# Altium schematic symbol library NORA.SchLib: 13 symbols
Pins are listed as number, name and electrical type; pins without a type are passive.

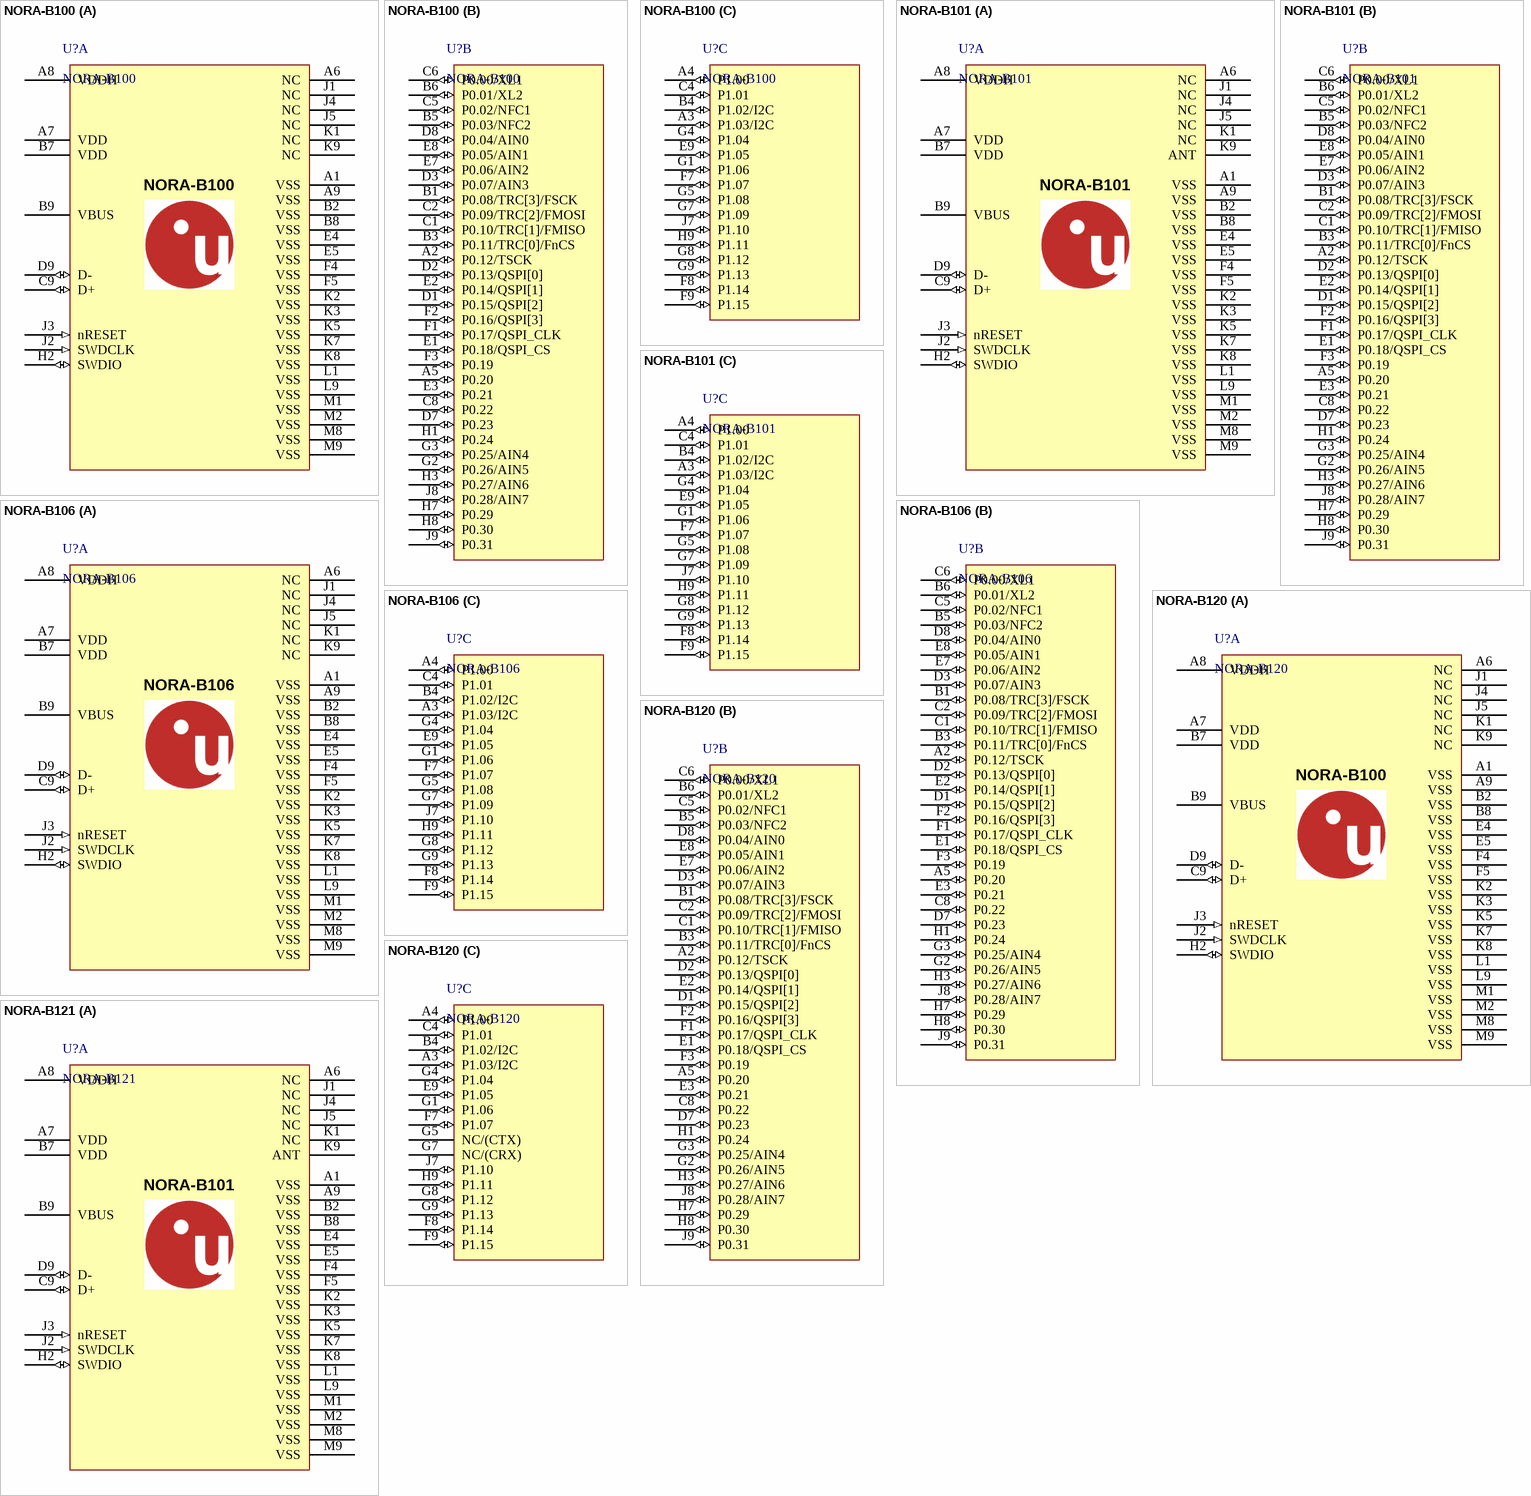
[diagram p0: symbols NORA-B100 to NORA-B121]

## NORA-B100
designator U?
u-blox NORA-B100 Bluetooth 5.2 LE module - dual core; Manufacturer P/N: NORA-B100-00B; Part Description: Stand-alone Bluetooth low energy module - dual core; Body Size: 14.3 mm x 10.4 mm; Part Number: NORA-B100; Part Name: NORA-B100; Part_Type: Module; Manufacturer: u-blox; Height: 1.8 mm; Value: NORA-B100
footprint NORA_LGA82R_1430X1040X180_UFL (NORA LGA, 82pin ,1.1mm Pitch, 14.3mm x 10.4mm)
footprint NORA_LGA82R_1430X1040X180_UFL - No Paste (NORA LGA, 82pin ,1.1mm Pitch, 14.3mm x 10.4mm)
part A pins: A1 VSS (power), A6 NC (hiz), A7 VDD (power), A8 VDDH (power), A9 VSS (power), B2 VSS (power), B7 VDD (power), B8 VSS (power), B9 VBUS (power), C9 D+ (io), D9 D- (io), E4 VSS (power), E5 VSS (power), F4 VSS (power), F5 VSS (power), H2 SWDIO (io), J1 NC (hiz), J2 SWDCLK (in), J3 nRESET (in), J4 NC (hiz), J5 NC (hiz), K1 NC (hiz), K2 VSS (power), K3 VSS (power), K5 VSS (power), K7 VSS (power), K8 VSS (power), K9 NC (hiz), L1 VSS (power), L9 VSS (power), M1 VSS (power), M2 VSS (power), M8 VSS (power), M9 VSS (power)
part B pins: A2 P0.12/TSCK (io), A5 P0.20 (io), B1 P0.08/TRC[3]/FSCK (io), B3 P0.11/TRC[0]/FnCS (io), B5 P0.03/NFC2 (io), B6 P0.01/XL2 (io), C1 P0.10/TRC[1]/FMISO (io), C2 P0.09/TRC[2]/FMOSI (io), C5 P0.02/NFC1 (io), C6 P0.00/XL1 (io), C8 P0.22 (io), D1 P0.15/QSPI[2] (io), D2 P0.13/QSPI[0] (io), D3 P0.07/AIN3 (io), D7 P0.23 (io), D8 P0.04/AIN0 (io), E1 P0.18/QSPI_CS (io), E2 P0.14/QSPI[1] (io), E3 P0.21 (io), E7 P0.06/AIN2 (io), E8 P0.05/AIN1 (io), F1 P0.17/QSPI_CLK (io), F2 P0.16/QSPI[3] (io), F3 P0.19 (io), G2 P0.26/AIN5 (io), G3 P0.25/AIN4 (io), H1 P0.24 (io), H3 P0.27/AIN6 (io), H7 P0.29 (io), H8 P0.30 (io), J8 P0.28/AIN7 (io), J9 P0.31 (io)
part C pins: A3 P1.03/I2C (io) "I2C Clock SCL", A4 P1.00 (io), B4 P1.02/I2C (io) "I2C Data SDA", C4 P1.01 (io), E9 P1.05 (io), F7 P1.07 (io), F8 P1.14 (io), F9 P1.15 (io), G1 P1.06 (io), G4 P1.04 (io), G5 P1.08 (io), G7 P1.09 (io), G8 P1.12 (io), G9 P1.13 (io), H9 P1.11 (io), J7 P1.10 (io)

## NORA-B101
designator U?
u-blox NORA-B101 Bluetooth 5.2 LE module - dual core; Manufacturer P/N: NORA-B101-00B; Part Description: Stand-alone Bluetooth low energy module - dual-core; Body Size: 14.3 mm x 10.4 mm; Part Number: NORA-B101; Part Name: NORA-B101; Part_Type: Module; Manufacturer: u-blox; Height: 1.8 mm; Value: NORA-B101
footprint NORA_LGA82R_1430X1040X180_PIN (NORA LGA, 82pin ,1.1mm Pitch, 14.3mm x 10.4mm)
footprint NORA_LGA82R_1430X1040X180_PIN - No Paste (NORA LGA, 82pin ,1.1mm Pitch, 14.3mm x 10.4mm)
part A pins: A1 VSS (power), A6 NC (hiz), A7 VDD (power), A8 VDDH (power), A9 VSS (power), B2 VSS (power), B7 VDD (power), B8 VSS (power), B9 VBUS (power), C9 D+ (io), D9 D- (io), E4 VSS (power), E5 VSS (power), F4 VSS (power), F5 VSS (power), H2 SWDIO (io), J1 NC (hiz), J2 SWDCLK (in), J3 nRESET (in), J4 NC (hiz), J5 NC (hiz), K1 NC (hiz), K2 VSS (power), K3 VSS (power), K5 VSS (power), K7 VSS (power), K8 VSS (power), K9 ANT (hiz), L1 VSS (power), L9 VSS (power), M1 VSS (power), M2 VSS (power), M8 VSS (power), M9 VSS (power)
part B pins: A2 P0.12/TSCK (io), A5 P0.20 (io), B1 P0.08/TRC[3]/FSCK (io), B3 P0.11/TRC[0]/FnCS (io), B5 P0.03/NFC2 (io), B6 P0.01/XL2 (io), C1 P0.10/TRC[1]/FMISO (io), C2 P0.09/TRC[2]/FMOSI (io), C5 P0.02/NFC1 (io), C6 P0.00/XL1 (io), C8 P0.22 (io), D1 P0.15/QSPI[2] (io), D2 P0.13/QSPI[0] (io), D3 P0.07/AIN3 (io), D7 P0.23 (io), D8 P0.04/AIN0 (io), E1 P0.18/QSPI_CS (io), E2 P0.14/QSPI[1] (io), E3 P0.21 (io), E7 P0.06/AIN2 (io), E8 P0.05/AIN1 (io), F1 P0.17/QSPI_CLK (io), F2 P0.16/QSPI[3] (io), F3 P0.19 (io), G2 P0.26/AIN5 (io), G3 P0.25/AIN4 (io), H1 P0.24 (io), H3 P0.27/AIN6 (io), H7 P0.29 (io), H8 P0.30 (io), J8 P0.28/AIN7 (io), J9 P0.31 (io)
part C pins: A3 P1.03/I2C (io) "I2C Clock SCL", A4 P1.00 (io), B4 P1.02/I2C (io) "I2C Data SDA", C4 P1.01 (io), E9 P1.05 (io), F7 P1.07 (io), F8 P1.14 (io), F9 P1.15 (io), G1 P1.06 (io), G4 P1.04 (io), G5 P1.08 (io), G7 P1.09 (io), G8 P1.12 (io), G9 P1.13 (io), H9 P1.11 (io), J7 P1.10 (io)

## NORA-B106
designator U?
u-blox NORA-B106 Bluetooth 5.2 LE module - dual core; Manufacturer P/N: NORA-B106-00B; Part Description: Stand-alone Bluetooth low energy module - dual core; Body Size: 14.3 mm x 10.4 mm; Part Number: NORA-B106; Part Name: NORA-B106; Part_Type: Module; Manufacturer: u-blox; Height: 1.8 mm; Value: NORA-B106
footprint NORA_LGA82R_1430X1040X180_ANT (NORA LGA, 82pin ,1.1mm Pitch, 14.3mm x 10.4mm)
footprint NORA_LGA82R_1430X1040X180_ANT - No Paste (NORA LGA, 82pin ,1.1mm Pitch, 14.3mm x 10.4mm)
part A pins: A1 VSS (power), A6 NC (hiz), A7 VDD (power), A8 VDDH (power), A9 VSS (power), B2 VSS (power), B7 VDD (power), B8 VSS (power), B9 VBUS (power), C9 D+ (io), D9 D- (io), E4 VSS (power), E5 VSS (power), F4 VSS (power), F5 VSS (power), H2 SWDIO (io), J1 NC (hiz), J2 SWDCLK (in), J3 nRESET (in), J4 NC (hiz), J5 NC (hiz), K1 NC (hiz), K2 VSS (power), K3 VSS (power), K5 VSS (power), K7 VSS (power), K8 VSS (power), K9 NC (hiz), L1 VSS (power), L9 VSS (power), M1 VSS (power), M2 VSS (power), M8 VSS (power), M9 VSS (power)
part B pins: A2 P0.12/TSCK (io), A5 P0.20 (io), B1 P0.08/TRC[3]/FSCK (io), B3 P0.11/TRC[0]/FnCS (io), B5 P0.03/NFC2 (io), B6 P0.01/XL2 (io), C1 P0.10/TRC[1]/FMISO (io), C2 P0.09/TRC[2]/FMOSI (io), C5 P0.02/NFC1 (io), C6 P0.00/XL1 (io), C8 P0.22 (io), D1 P0.15/QSPI[2] (io), D2 P0.13/QSPI[0] (io), D3 P0.07/AIN3 (io), D7 P0.23 (io), D8 P0.04/AIN0 (io), E1 P0.18/QSPI_CS (io), E2 P0.14/QSPI[1] (io), E3 P0.21 (io), E7 P0.06/AIN2 (io), E8 P0.05/AIN1 (io), F1 P0.17/QSPI_CLK (io), F2 P0.16/QSPI[3] (io), F3 P0.19 (io), G2 P0.26/AIN5 (io), G3 P0.25/AIN4 (io), H1 P0.24 (io), H3 P0.27/AIN6 (io), H7 P0.29 (io), H8 P0.30 (io), J8 P0.28/AIN7 (io), J9 P0.31 (io)
part C pins: A3 P1.03/I2C (io) "I2C Clock SCL", A4 P1.00 (io), B4 P1.02/I2C (io) "I2C Data SDA", C4 P1.01 (io), E9 P1.05 (io), F7 P1.07 (io), F8 P1.14 (io), F9 P1.15 (io), G1 P1.06 (io), G4 P1.04 (io), G5 P1.08 (io), G7 P1.09 (io), G8 P1.12 (io), G9 P1.13 (io), H9 P1.11 (io), J7 P1.10 (io)

## NORA-B120
designator U?
u-blox NORA-B120 Bluetooth 5.2 LE module - dual core; Part Description: Stand-alone Bluetooth low energy module - dual core; Body Size: 14.3 mm x 10.4 mm; Manufacturer P/N: NORA-B120; Part Number: NORA-B120; Part Name: NORA-B120; Part_Type: Module; Manufacturer: u-blox; Height: 1.8 mm; Value: NORA-B120
footprint NORA_LGA82R_1430X1040X180_UFL (NORA LGA, 82pin ,1.1mm Pitch, 14.3mm x 10.4mm)
footprint NORA_LGA82R_1430X1040X180_UFL - No Paste (NORA LGA, 82pin ,1.1mm Pitch, 14.3mm x 10.4mm)
part A pins: A1 VSS (power), A6 NC (hiz), A7 VDD (power), A8 VDDH (power), A9 VSS (power), B2 VSS (power), B7 VDD (power), B8 VSS (power), B9 VBUS (power), C9 D+ (io), D9 D- (io), E4 VSS (power), E5 VSS (power), F4 VSS (power), F5 VSS (power), H2 SWDIO (io), J1 NC (hiz), J2 SWDCLK (in), J3 nRESET (in), J4 NC (hiz), J5 NC (hiz), K1 NC (hiz), K2 VSS (power), K3 VSS (power), K5 VSS (power), K7 VSS (power), K8 VSS (power), K9 NC (hiz), L1 VSS (power), L9 VSS (power), M1 VSS (power), M2 VSS (power), M8 VSS (power), M9 VSS (power)
part B pins: A2 P0.12/TSCK (io), A5 P0.20 (io), B1 P0.08/TRC[3]/FSCK (io), B3 P0.11/TRC[0]/FnCS (io), B5 P0.03/NFC2 (io), B6 P0.01/XL2 (io), C1 P0.10/TRC[1]/FMISO (io), C2 P0.09/TRC[2]/FMOSI (io), C5 P0.02/NFC1 (io), C6 P0.00/XL1 (io), C8 P0.22 (io), D1 P0.15/QSPI[2] (io), D2 P0.13/QSPI[0] (io), D3 P0.07/AIN3 (io), D7 P0.23 (io), D8 P0.04/AIN0 (io), E1 P0.18/QSPI_CS (io), E2 P0.14/QSPI[1] (io), E3 P0.21 (io), E7 P0.06/AIN2 (io), E8 P0.05/AIN1 (io), F1 P0.17/QSPI_CLK (io), F2 P0.16/QSPI[3] (io), F3 P0.19 (io), G2 P0.26/AIN5 (io), G3 P0.25/AIN4 (io), H1 P0.24 (io), H3 P0.27/AIN6 (io), H7 P0.29 (io), H8 P0.30 (io), J8 P0.28/AIN7 (io), J9 P0.31 (io)
part C pins: A3 P1.03/I2C (io) "I2C Clock SCL", A4 P1.00 (io), B4 P1.02/I2C (io) "I2C Data SDA", C4 P1.01 (io), E9 P1.05 (io), F7 P1.07 (io), F8 P1.14 (io), F9 P1.15 (io), G1 P1.06 (io), G4 P1.04 (io), G5 NC/(CTX) (hiz) "Front End Module Tx Mode Enable", G7 NC/(CRX) (hiz) "Front End Module Rx Enable", G8 P1.12 (io), G9 P1.13 (io), H9 P1.11 (io), J7 P1.10 (io)
part A text: NORA-B100

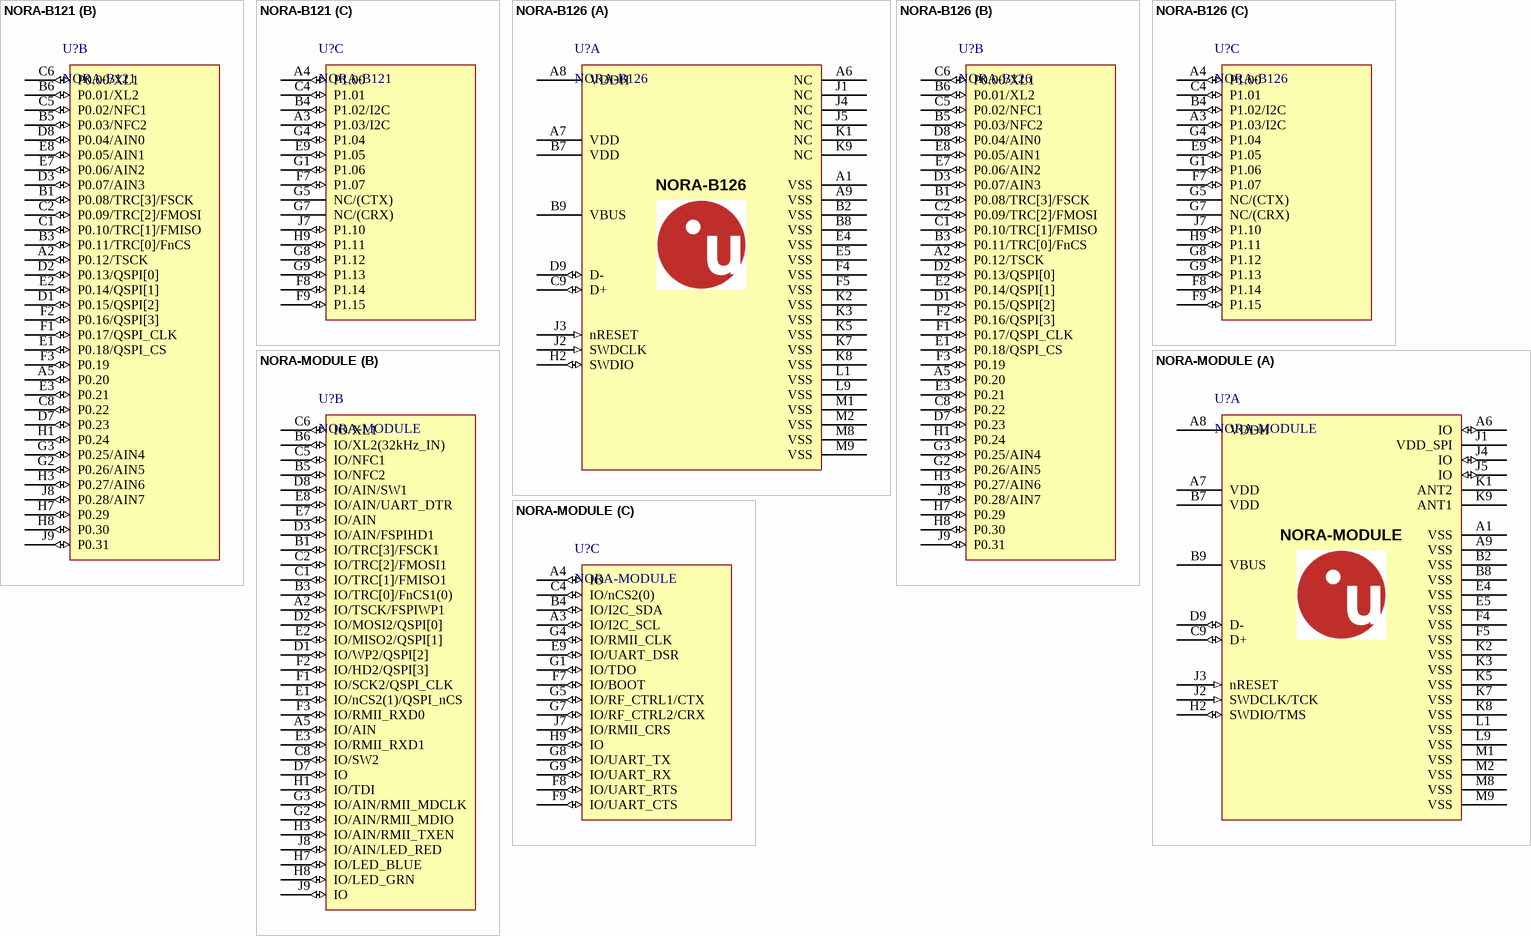
[diagram p1: symbols NORA-B121 to NORA-MODULE]

## NORA-B121
designator U?
u-blox NORA-B121 Bluetooth 5.2 LE module - dual core; Part Description: Stand-alone Bluetooth low energy module - dual-core; Body Size: 14.3 mm x 10.4 mm; Manufacturer P/N: NORA-B121; Part Number: NORA-B121; Part Name: NORA-B121; Part_Type: Module; Manufacturer: u-blox; Height: 1.8 mm; Value: NORA-B121
footprint NORA_LGA82R_1430X1040X180_PIN (NORA LGA, 82pin ,1.1mm Pitch, 14.3mm x 10.4mm)
footprint NORA_LGA82R_1430X1040X180_PIN - No Paste (NORA LGA, 82pin ,1.1mm Pitch, 14.3mm x 10.4mm)
part A pins: A1 VSS (power), A6 NC (hiz), A7 VDD (power), A8 VDDH (power), A9 VSS (power), B2 VSS (power), B7 VDD (power), B8 VSS (power), B9 VBUS (power), C9 D+ (io), D9 D- (io), E4 VSS (power), E5 VSS (power), F4 VSS (power), F5 VSS (power), H2 SWDIO (io), J1 NC (hiz), J2 SWDCLK (in), J3 nRESET (in), J4 NC (hiz), J5 NC (hiz), K1 NC (hiz), K2 VSS (power), K3 VSS (power), K5 VSS (power), K7 VSS (power), K8 VSS (power), K9 ANT (hiz), L1 VSS (power), L9 VSS (power), M1 VSS (power), M2 VSS (power), M8 VSS (power), M9 VSS (power)
part B pins: A2 P0.12/TSCK (io), A5 P0.20 (io), B1 P0.08/TRC[3]/FSCK (io), B3 P0.11/TRC[0]/FnCS (io), B5 P0.03/NFC2 (io), B6 P0.01/XL2 (io), C1 P0.10/TRC[1]/FMISO (io), C2 P0.09/TRC[2]/FMOSI (io), C5 P0.02/NFC1 (io), C6 P0.00/XL1 (io), C8 P0.22 (io), D1 P0.15/QSPI[2] (io), D2 P0.13/QSPI[0] (io), D3 P0.07/AIN3 (io), D7 P0.23 (io), D8 P0.04/AIN0 (io), E1 P0.18/QSPI_CS (io), E2 P0.14/QSPI[1] (io), E3 P0.21 (io), E7 P0.06/AIN2 (io), E8 P0.05/AIN1 (io), F1 P0.17/QSPI_CLK (io), F2 P0.16/QSPI[3] (io), F3 P0.19 (io), G2 P0.26/AIN5 (io), G3 P0.25/AIN4 (io), H1 P0.24 (io), H3 P0.27/AIN6 (io), H7 P0.29 (io), H8 P0.30 (io), J8 P0.28/AIN7 (io), J9 P0.31 (io)
part C pins: A3 P1.03/I2C (io) "I2C Clock SCL", A4 P1.00 (io), B4 P1.02/I2C (io) "I2C Data SDA", C4 P1.01 (io), E9 P1.05 (io), F7 P1.07 (io), F8 P1.14 (io), F9 P1.15 (io), G1 P1.06 (io), G4 P1.04 (io), G5 NC/(CTX) (hiz) "Front End Module Tx Mode Enable", G7 NC/(CRX) (hiz) "Front End Module Rx Enable", G8 P1.12 (io), G9 P1.13 (io), H9 P1.11 (io), J7 P1.10 (io)
part A text: NORA-B101

## NORA-B126
designator U?
u-blox NORA-B126 Bluetooth 5.2 LE module with FEM; Manufacturer P/N: NORA-B106-00B; Part Description: Stand-alone Bluetooth low energy module - dual core; Body Size: 14.3 mm x 10.4 mm; Part Number: NORA-B126; Part Name: NORA-B126; Part_Type: Module; Manufacturer: u-blox; Height: 1.8 mm; Value: NORA-B126
footprint NORA_LGA82R_1430X1040X180_ANT (NORA LGA, 82pin ,1.1mm Pitch, 14.3mm x 10.4mm)
footprint NORA_LGA82R_1430X1040X180_ANT - No Paste (NORA LGA, 82pin ,1.1mm Pitch, 14.3mm x 10.4mm)
part A pins: A1 VSS (power), A6 NC (hiz), A7 VDD (power), A8 VDDH (power), A9 VSS (power), B2 VSS (power), B7 VDD (power), B8 VSS (power), B9 VBUS (power), C9 D+ (io), D9 D- (io), E4 VSS (power), E5 VSS (power), F4 VSS (power), F5 VSS (power), H2 SWDIO (io), J1 NC (hiz), J2 SWDCLK (in), J3 nRESET (in), J4 NC (hiz), J5 NC (hiz), K1 NC (hiz), K2 VSS (power), K3 VSS (power), K5 VSS (power), K7 VSS (power), K8 VSS (power), K9 NC (hiz), L1 VSS (power), L9 VSS (power), M1 VSS (power), M2 VSS (power), M8 VSS (power), M9 VSS (power)
part B pins: A2 P0.12/TSCK (io), A5 P0.20 (io), B1 P0.08/TRC[3]/FSCK (io), B3 P0.11/TRC[0]/FnCS (io), B5 P0.03/NFC2 (io), B6 P0.01/XL2 (io), C1 P0.10/TRC[1]/FMISO (io), C2 P0.09/TRC[2]/FMOSI (io), C5 P0.02/NFC1 (io), C6 P0.00/XL1 (io), C8 P0.22 (io), D1 P0.15/QSPI[2] (io), D2 P0.13/QSPI[0] (io), D3 P0.07/AIN3 (io), D7 P0.23 (io), D8 P0.04/AIN0 (io), E1 P0.18/QSPI_CS (io), E2 P0.14/QSPI[1] (io), E3 P0.21 (io), E7 P0.06/AIN2 (io), E8 P0.05/AIN1 (io), F1 P0.17/QSPI_CLK (io), F2 P0.16/QSPI[3] (io), F3 P0.19 (io), G2 P0.26/AIN5 (io), G3 P0.25/AIN4 (io), H1 P0.24 (io), H3 P0.27/AIN6 (io), H7 P0.29 (io), H8 P0.30 (io), J8 P0.28/AIN7 (io), J9 P0.31 (io)
part C pins: A3 P1.03/I2C (io) "I2C Clock SCL", A4 P1.00 (io), B4 P1.02/I2C (io) "I2C Data SDA", C4 P1.01 (io), E9 P1.05 (io), F7 P1.07 (io), F8 P1.14 (io), F9 P1.15 (io), G1 P1.06 (io), G4 P1.04 (io), G5 NC/(CTX) (hiz) "Front End Module Tx Mode Enable", G7 NC/(CRX) (hiz) "Front End Module Rx Enable", G8 P1.12 (io), G9 P1.13 (io), H9 P1.11 (io), J7 P1.10 (io)

## NORA-MODULE
designator U?
u-blox NORA module generic symbol for use within module designs; Manufacturer P/N: NORA-B100-00B; Part Number: NORA-B100; Part Description: Stand-alone Bluetooth low energy module - dual core; Body Size: 14.3 mm x 10.4 mm; Value: NORA-B100; Part Name: NORA-B100; Part_Type: Module; Manufacturer: u-blox; Height: 1.8 mm
footprint NORA_LGA82R_1430X1040X180_MOD (NORA LGA, 82pin ,1.1mm Pitch, 14.3mm x 10.4mm, to be used for modules)
part A pins: A1 VSS (power) "Ground", A6 IO (io), A7 VDD (power) "Primary power source and IO reference voltage", A8 VDDH (power) "High voltage power supply", A9 VSS (power) "Ground", B2 VSS (power) "Ground", B7 VDD (power) "Primary power source and IO reference voltage", B8 VSS (power) "Ground", B9 VBUS (power) "+5V USB VBUS Input", C9 D+ (io) "USB Data+", D9 D- (io) "USB Data-", E4 VSS (power) "Ground", E5 VSS (power) "Ground", F4 VSS (power) "Ground", F5 VSS (power) "Ground", H2 SWDIO/TMS (io) "Debug interface (SWD I/O or JTAG TMS)", J1 VDD_SPI "Alternate IO reference voltage", J2 SWDCLK/TCK (in) "Debug Interface Clock Input", J3 nRESET (in), J4 IO (io), J5 IO (io), K1 ANT2 "Secondary RF Port", K2 VSS (power) "Ground", K3 VSS (power) "Ground", K5 VSS (power) "Ground", K7 VSS (power) "Ground", K8 VSS (power) "Ground", K9 ANT1 "Primary RF Port", L1 VSS (power) "Ground", L9 VSS (power) "Ground", M1 VSS (power) "Ground", M2 VSS (power) "Ground", M8 VSS (power) "Ground", M9 VSS (power) "Ground"
part B pins: A2 IO/TSCK/FSPIWP1 (io) "Trace clock, Fast SPI WP, IO", A5 IO/AIN (io) "IO, should be Analog capable if possible", B1 IO/TRC[3]/FSCK1 (io) "High-speed SPI Clock, Tracedata[3], IO", B3 IO/TRC[0]/FnCS1(0) (io) "High-speed SPI nCS, Tracedata[0], IO", B5 IO/NFC2 (io) "NFC Antenna pin 2 or IO", B6 IO/XL2(32kHz_IN) (io) "32kHz XTAL, or 32kHz input, or IO", C1 IO/TRC[1]/FMISO1 (io) "High-speed SPI MISO, Tracedata[1], IO", C2 IO/TRC[2]/FMOSI1 (io) "High-speed SPI MOSI, Tracedata[2], IO", C5 IO/NFC1 (io) "NFC Antenna pin 1 or IO", C6 IO/XL1 (io) "32kHz XTAL, or IO", C8 IO/SW2 (io) "IO, assigned to SW2 in u-connect", D1 IO/WP2/QSPI[2] (io) "IO, Secondary SPI WP QSPI 2 [2]", D2 IO/MOSI2/QSPI[0] (io) "IO, Secondary SPI MOSI, QSPI 2 [0]", D3 IO/AIN/FSPIHD1 (io) "IO, should be Analog capable if possible", D7 IO (io), D8 IO/AIN/SW1 (io) "IO, should be Analog capable if possible, assigned to SW1 in u-connect", E1 IO/nCS2(1)/QSPI_nCS (io) "Secondary SPI chip select, QSPI 2 chip select, IO", E2 IO/MISO2/QSPI[1] (io) "IO, Secondary SPI MISO, QSPI 2 [1]", E3 IO/RMII_RXD1 (io) "Reduced media-independent interface RX data bit 1", E7 IO/AIN (io) "IO, should be Analog capable if possible", E8 IO/AIN/UART_DTR (io) "IO, should be Analog capable if possible, UART DTR", F1 IO/SCK2/QSPI_CLK (io) "Secondary SPI Clock, QSPI 2 Clock, IO", F2 IO/HD2/QSPI[3] (io) "IO, Secondary SPI HD, QSPI 2 [2]", F3 IO/RMII_RXD0 (io) "IO/Reduced media-independent interface RX data bit 0", G2 IO/AIN/RMII_MDIO (io) "IO, IO, should be Analog capable if possible, RMII_MDIO", G3 IO/AIN/RMII_MDCLK (io) "IO, IO, should be Analog capable if possible, RMII_MDCLK", H1 IO/TDI (io) "IO, JTAG TDI signal", H3 IO/AIN/RMII_TXEN (io) "IO, should be Analog capable if possible, RMII_TXEN", H7 IO/LED_BLUE (io) "IO, may be wired to Blue LED for u-connect-Xpress", H8 IO/LED_GRN (io) "IO, may be wired to Green LED for u-connect-Xpress", J8 IO/AIN/LED_RED (io) "IO, IO, should be Analog capable if possible, May be connected to Red LED for u-connectXpress", J9 IO (io)
part C pins: A3 IO/I2C_SCL (io) "IO, I2C Clock SCL", A4 IO (io), B4 IO/I2C_SDA (io) "IO, I2C Data SDA", C4 IO/nCS2(0) (io), E9 IO/UART_DSR (io) "IO, UART DSR signal", F7 IO/BOOT (io) "IO, may be used to initiate bootloader download", F8 IO/UART_RTS (io) "IO, Primary UART RTS output", F9 IO/UART_CTS (io) "IO, Primary UART CTS input", G1 IO/TDO (io) "IO, JTAG TDO signal", G4 IO/RMII_CLK (io) "IO, RMII_CLK", G5 IO/RF_CTRL1/CTX (io) "RF_CTRL1, used to enable Tx for internal FEM modules, IO", G7 IO/RF_CTRL2/CRX (io) "RF_CTRL2, used to enable Rx for internal FEM modules, IO", G8 IO/UART_TX (io) "IO, Primary UART transmit data output", G9 IO/UART_RX (io) "IO, Primary UART receive data input", H9 IO (io), J7 IO/RMII_CRS (io) "IO, RMII_CRS"

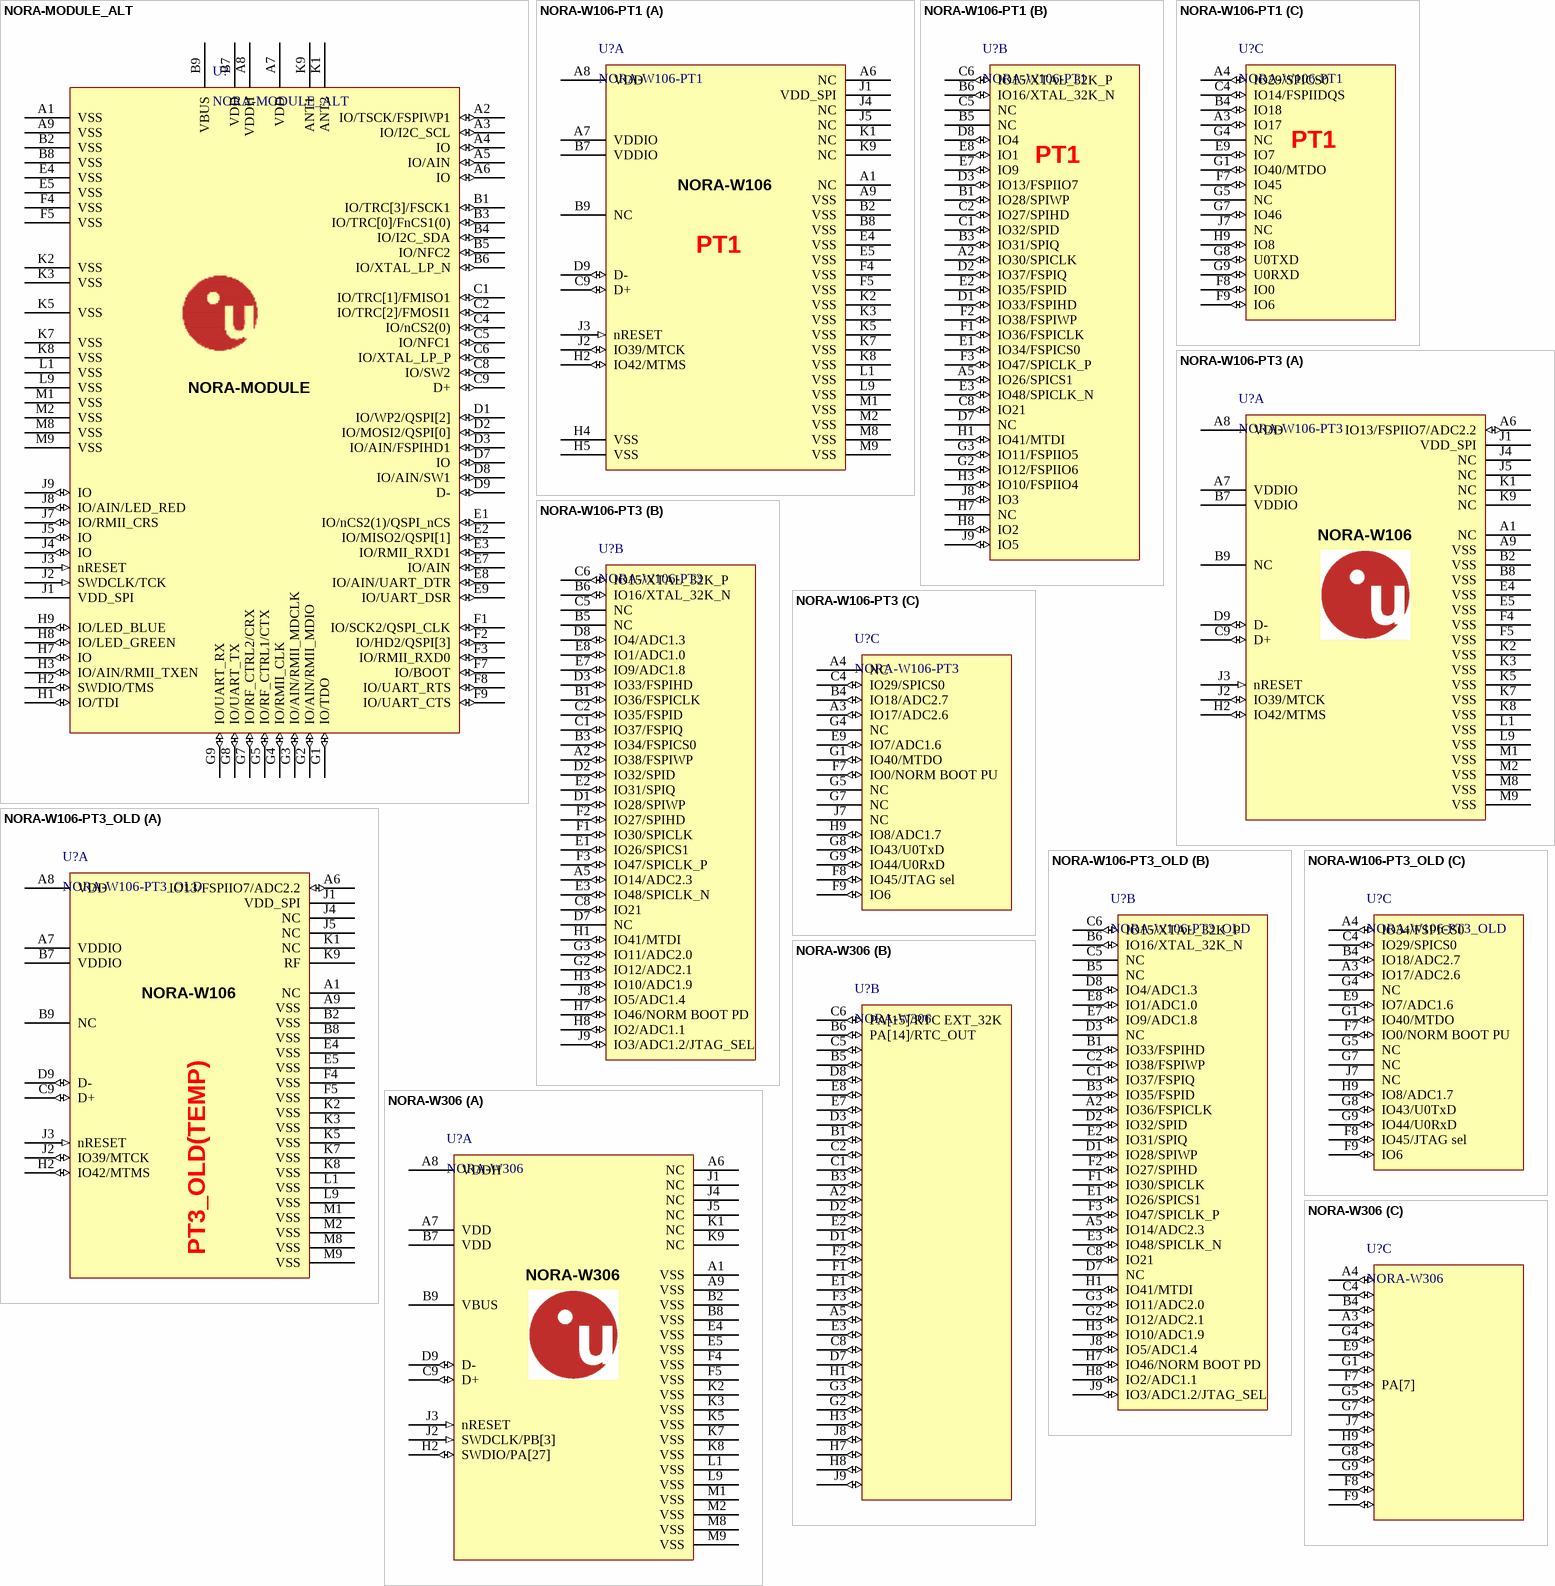
[diagram p2: symbols NORA-MODULE_ALT to NORA-W306]

## NORA-MODULE_ALT
designator U?
u-blox NORA module generic symbol for use within module designs - alternate version; Part Description: NORA MODULE FOOTPRINT; Body Size: 14.3 mm x 10.4 mm; Manufacturer P/N: NORA; Part Number: NORA; Part Name: NORA; Part_Type: Module; Manufacturer: u-blox; Height: 0; Value: NORA
footprint NORA_LGA82R_1430X1040X180_MOD (NORA LGA, 82pin ,1.1mm Pitch, 14.3mm x 10.4mm, to be used for modules)
footprint NORA_LGA82R_1430X1040X180_ANT (NORA LGA, 82pin ,1.1mm Pitch, 14.3mm x 10.4mm)
pins: A1 VSS (power) "Ground", A2 IO/TSCK/FSPIWP1 (io) "Trace clock, Fast SPI WP, IO", A3 IO/I2C_SCL (io) "IO, I2C Clock SCL", A4 IO (io), A5 IO/AIN (io) "IO, should be Analog capable if possible", A6 IO (io), A7 VDD (power) "Primary power source and IO reference voltage", A8 VDDH (power) "High voltage power supply", A9 VSS (power) "Ground", B1 IO/TRC[3]/FSCK1 (io) "High-speed SPI Clock, Tracedata[3], IO", B2 VSS (power) "Ground", B3 IO/TRC[0]/FnCS1(0) (io) "High-speed SPI nCS, Tracedata[0], IO", B4 IO/I2C_SDA (io) "IO, I2C Data SDA", B5 IO/NFC2 (io) "NFC Antenna pin 2 or IO", B6 IO/XTAL_LP_N (io) "32kHz XTAL, or 32kHz input, or IO", B7 VDD (power) "Primary power source and IO reference voltage", B8 VSS (power) "Ground", B9 VBUS (power) "+5V USB VBUS Input", C1 IO/TRC[1]/FMISO1 (io) "High-speed SPI MISO, Tracedata[1], IO", C2 IO/TRC[2]/FMOSI1 (io) "High-speed SPI MOSI, Tracedata[2], IO", C4 IO/nCS2(0) (io), C5 IO/NFC1 (io) "NFC Antenna pin 1 or IO", C6 IO/XTAL_LP_P (io), C8 IO/SW2 (io) "IO, assigned to SW2 in u-connect", C9 D+ (io) "USB Data+", D1 IO/WP2/QSPI[2] (io) "IO, Secondary SPI WP QSPI 2 [2]", D2 IO/MOSI2/QSPI[0] (io) "IO, Secondary SPI MOSI, QSPI 2 [0]", D3 IO/AIN/FSPIHD1 (io) "IO, should be Analog capable if possible", D7 IO (io), D8 IO/AIN/SW1 (io) "IO, should be Analog capable if possible, assigned to SW1 in u-connect", D9 D- (io) "USB Data-", E1 IO/nCS2(1)/QSPI_nCS (io) "Secondary SPI chip select, QSPI 2 chip select, IO", E2 IO/MISO2/QSPI[1] (io) "IO, Secondary SPI MISO, QSPI 2 [1]", E3 IO/RMII_RXD1 (io) "Reduced media-independent interface RX data bit 1", E4 VSS (power) "Ground", E5 VSS (power) "Ground", E7 IO/AIN (io) "IO, should be Analog capable if possible", E8 IO/AIN/UART_DTR (io) "IO, should be Analog capable if possible, UART DTR", E9 IO/UART_DSR (io) "IO, UART DSR signal", F1 IO/SCK2/QSPI_CLK (io) "Secondary SPI Clock, QSPI 2 Clock, IO", F2 IO/HD2/QSPI[3] (io) "IO, Secondary SPI HD, QSPI 2 [2]", F3 IO/RMII_RXD0 (io) "IO/Reduced media-independent interface RX data bit 0", F4 VSS (power) "Ground", F5 VSS (power) "Ground", F7 IO/BOOT (io) "IO, may be used to initiate bootloader download", F8 IO/UART_RTS (io) "IO, Primary UART RTS output", F9 IO/UART_CTS (io) "IO, Primary UART CTS input", G1 IO/TDO (io) "IO, JTAG TDO signal", G2 IO/AIN/RMII_MDIO (io) "IO, IO, should be Analog capable if possible, RMII_MDIO", G3 IO/AIN/RMII_MDCLK (io) "IO, IO, should be Analog capable if possible, RMII_MDCLK", G4 IO/RMII_CLK (io) "IO, RMII_CLK", G5 IO/RF_CTRL1/CTX (io) "RF_CTRL1, used to enable Tx for internal FEM modules, IO", G7 IO/RF_CTRL2/CRX (io) "RF_CTRL2, used to enable Rx for internal FEM modules, IO", G8 IO/UART_TX (io) "IO, Primary UART transmit data output", G9 IO/UART_RX (io) "IO, Primary UART receive data input", H1 IO/TDI (io) "IO, JTAG TDI signal", H2 SWDIO/TMS (io) "Debug interface (SWD I/O or JTAG TMS)", H3 IO/AIN/RMII_TXEN (io) "IO, should be Analog capable if possible, RMII_TXEN", H7 IO (io) "IO, may be wired to Blue LED for u-connect-Xpress", H8 IO/LED_GREEN (io) "IO, may be wired to Green LED for u-connect-Xpress", H9 IO/LED_BLUE (io) "IO", J1 VDD_SPI "Alternate IO reference voltage", J2 SWDCLK/TCK (in) "Debug Interface Clock Input", J3 nRESET (in), J4 IO (io), J5 IO (io), J7 IO/RMII_CRS (io) "IO, RMII_CRS", J8 IO/AIN/LED_RED (io) "IO, IO, should be Analog capable if possible, May be connected to Red LED for u-connectXpress", J9 IO (io), K1 ANT2 "Secondary RF Port", K2 VSS (power) "Ground", K3 VSS (power) "Ground", K5 VSS (power) "Ground", K7 VSS (power) "Ground", K8 VSS (power) "Ground", K9 ANT1 "Primary RF Port", L1 VSS (power) "Ground", L9 VSS (power) "Ground", M1 VSS (power) "Ground", M2 VSS (power) "Ground", M8 VSS (power) "Ground", M9 VSS (power) "Ground"
text: NORA-MODULE

## NORA-W106-PT1
designator U?
u-blox NORA-W106 WiFi + BLE module - dual core; Manufacturer P/N: NORA-W106-00B; Part Description: Stand-alone Bluetooth low energy module - dual core; Body Size: 14.3 mm x 10.4 mm; Part Number: NORA-W106; Part Name: NORA-W106; Part_Type: Module; Manufacturer: u-blox; Height: 1.8 mm; Value: NORA-W106
footprint NORA_LGA82R_1430X1040X180_ANT (NORA LGA, 82pin ,1.1mm Pitch, 14.3mm x 10.4mm)
footprint NORA_LGA82R_1430X1040X180_ANT - No Paste (NORA LGA, 82pin ,1.1mm Pitch, 14.3mm x 10.4mm)
part A pins: A1 NC (hiz), A6 NC (hiz), A7 VDDIO (power) "Input power supply for CPU IO", A8 VDD (power) "Analog power supply", A9 VSS (power) "Ground", B2 VSS (power) "Ground", B7 VDDIO (power) "Input power supply for CPU IO", B8 VSS (power) "Ground", B9 NC (hiz) "No Connect", C9 D+ (io) "USB D+", D9 D- (io) "USB D-", E4 VSS (power) "Ground", E5 VSS (power) "Ground", F4 VSS (power) "Ground", F5 VSS (power) "Ground", H2 IO42/MTMS (io) "MTMS, GPIO42", H4 VSS (power) "Ground", H5 VSS (power) "Ground", J1 VDD_SPI (power) "Output power supply: 1.8 V or VDD3P3_RTC", J2 IO39/MTCK (io) "MTCK, GPIO39, CLK_OUT3, SUBSPICS1", J3 nRESET (in) "High: on, enables the chip.", J4 NC (hiz), J5 NC (hiz), K1 NC (hiz), K2 VSS (power) "Ground", K3 VSS (power) "Ground", K5 VSS (power) "Ground", K7 VSS (power) "Ground", K8 VSS (power) "Ground", K9 NC (hiz), L1 VSS (power) "Ground", L9 VSS (power) "Ground", M1 VSS (power) "Ground", M2 VSS (power) "Ground", M8 VSS (power) "Ground", M9 VSS (power) "Ground"
part B pins: A2 IO30/SPICLK (io) "SPICLK, GPIO30", A5 IO26/SPICS1 (io) "SPICS1, GPIO26", B1 IO28/SPIWP (io) "SPIWP, GPIO28", B3 IO31/SPIQ (io) "SPIQ, GPIO31", B5 NC (hiz) "Do Not Connect", B6 IO16/XTAL_32K_N (io), C1 IO32/SPID (io) "SPID, GPIO32", C2 IO27/SPIHD (io) "SPIHD, GPIO27", C5 NC (hiz) "Do Not Connect", C6 IO15/XTAL_32K_P (io), C8 IO21 (io) "RTC_GPIO21, GPIO21", D1 IO33/FSPIHD (io) "SPIIO4, GPIO33, FSPIHD, SUBSPIHD", D2 IO37/FSPIQ (io) "SPIDQS, GPIO37, FSPIQ, SUBSPIQ", D3 IO13/FSPIIO7 (io) "RTC_GPIO13, GPIO13, TOUCH13, ADC2_CH2, FSPIIO7, SUBSPIQ, FSPIQ", D7 NC (hiz) "Do No Connect", D8 IO4 (io) "RTC_GPIO4, GPIO4, TOUCH4, ADC1_CH3", E1 IO34/FSPICS0 (io) "SPIIO5, GPIO34, FSPICS0, SUBSPICS0", E2 IO35/FSPID (io) "SPIIO6, GPIO35, FSPID, SUBSPID", E3 IO48/SPICLK_N (io) "SPICLK_N_DIFF, GPIO48, SUBSPICLK_N_DIFF", E7 IO9 (io) "RTC_GPIO9, GPIO9, TOUCH9, ADC1_CH8, SUBSPIHD, FSPIHD", E8 IO1 (io) "RTC_GPIO1, GPIO1, TOUCH1, ADC1_CH0", F1 IO36/FSPICLK (io) "SPIIO7, GPIO36, FSPICLK, SUBSPICLK", F2 IO38/FSPIWP (io) "GPIO38, FSPIWP, SUBSPIWP", F3 IO47/SPICLK_P (io) "SPICLK_P_DIFF, GPIO47, SUBSPICLK_P_DIFF", G2 IO12/FSPIIO6 (io) "RTC_GPIO12, GPIO12, TOUCH12, ADC2_CH1, FSPIIO6, SUBSPICLK, FSPICLK", G3 IO11/FSPIIO5 (io) "RTC_GPIO11, GPIO11, TOUCH11, ADC2_CH0, FSPIIO5, SUBSPID, FSPID", H1 IO41/MTDI (io) "MTDI, GPIO41, CLK_OUT1", H3 IO10/FSPIIO4 (io) "RTC_GPIO10, GPIO10, TOUCH10, ADC1_CH9, FSPIIO4, SUBSPICS0, FSPICS0", H7 NC (hiz) "Do Not Connect", H8 IO2 (io) "RTC_GPIO2, GPIO2, TOUCH2, ADC1_CH1", J8 IO3 (io) "RTC_GPIO3, GPIO3, TOUCH3, ADC1_CH2", J9 IO5 (io) "RTC_GPIO5, GPIO5, TOUCH5, ADC1_CH4"
part C pins: A3 IO17 (io) "RTC_GPIO17, GPIO17, U1TXD, ADC2_CH6", A4 IO29/SPICS0 (io) "SPICS0, GPIO29", B4 IO18 (io) "RTC_GPIO18, GPIO18, U1RXD, ADC2_CH7, CLK_OUT3", C4 IO14/FSPIIDQS (io) "RTC_GPIO14, GPIO14, TOUCH14, ADC2_CH3, FSPIDQS, SUBSPIWP, FSPIWP", E9 IO7 (io) "RTC_GPIO7, GPIO7, TOUCH7, ADC1_CH6", F7 IO45 (io) "GPIO45", F8 IO0 (io) "RTC_GPIO0, GPIO0", F9 IO6 (io) "RTC_GPIO6, GPIO6, TOUCH6, ADC1_CH5", G1 IO40/MTDO (io) "MTDO, GPIO40, CLK_OUT2", G4 NC (hiz), G5 NC (hiz), G7 IO46 (io) "GPIO46", G8 U0TXD (io) "U0TXD, GPIO43, CLK_OUT1", G9 U0RXD (io) "U0RXD, GPIO44, CLK_OUT2", H9 IO8 (io) "RTC_GPIO8, GPIO8, TOUCH8, ADC1_CH7, SUBSPICS1", J7 NC (hiz)
part A text: PT1
part B text: PT1
part C text: PT1

## NORA-W106-PT3
designator U?
u-blox NORA-W106 WiFi + BLE module - dual core; Manufacturer P/N: NORA-W106-00B; Part Description: Stand-alone Bluetooth low energy module - dual core; Manufacturer 1: u-blox AG; Body Size: 14.3 mm x 10.4 mm; Part Number: NORA-W106; Part Name: NORA-W106; Part_Type: Module; Manufacturer: u-blox; Height: 1.8 mm; Value: NORA-W106; Manufacturer Part Number 1: NORA-W106
footprint NORA_LGA82R_1430X1040X180_ANT (NORA LGA, 82pin ,1.1mm Pitch, 14.3mm x 10.4mm)
footprint NORA_LGA82R_1430X1040X180_ANT - No Paste (NORA LGA, 82pin ,1.1mm Pitch, 14.3mm x 10.4mm)
part A pins: A1 NC (hiz), A6 IO13/FSPIIO7/ADC2.2 (io) "RTC_GPIO13, GPIO13, TOUCH13, ADC2_CH2, FSPIIO7, SUBSPIQ, FSPIQ", A7 VDDIO (power) "Input power supply for CPU IO", A8 VDD (power) "Analog power supply", A9 VSS (power) "Ground", B2 VSS (power) "Ground", B7 VDDIO (power) "Input power supply for CPU IO", B8 VSS (power) "Ground", B9 NC (hiz) "No Connect", C9 D+ (io) "USB D+", D9 D- (io) "USB D-", E4 VSS (power) "Ground", E5 VSS (power) "Ground", F4 VSS (power) "Ground", F5 VSS (power) "Ground", H2 IO42/MTMS (io) "MTMS, GPIO42", J1 VDD_SPI (power) "Output power supply: 1.8 V or VDD3P3_RTC", J2 IO39/MTCK (io) "MTCK, GPIO39, CLK_OUT3, SUBSPICS1", J3 nRESET (in) "High: on, enables the chip.", J4 NC (hiz), J5 NC (hiz), K1 NC (hiz), K2 VSS (power) "Ground", K3 VSS (power) "Ground", K5 VSS (power) "Ground", K7 VSS (power) "Ground", K8 VSS (power) "Ground", K9 NC, L1 VSS (power) "Ground", L9 VSS (power) "Ground", M1 VSS (power) "Ground", M2 VSS (power) "Ground", M8 VSS (power) "Ground", M9 VSS (power) "Ground"
part B pins: A2 IO38/FSPIWP (io) "GPIO38, FSPIWP, SUBSPIWP", A5 IO14/ADC2.3 (io) "RTC_GPIO14, GPIO14, TOUCH14, ADC2_CH3, FSPIDQS, SUBSPIWP, FSPIWP", B1 IO36/FSPICLK (io) "SPIIO7, GPIO36, FSPICLK, SUBSPICLK", B3 IO34/FSPICS0 (io) "SPIIO5, GPIO34, FSPICS0, SUBSPICS0", B5 NC (hiz) "Do Not Connect", B6 IO16/XTAL_32K_N (io) "RTC_GPIO16, GPIO16, U0CTS, ADC2_CH5, XTAL_32K_N", C1 IO37/FSPIQ (io) "SPIDQS, GPIO37, FSPIQ, SUBSPIQ", C2 IO35/FSPID (io) "SPIIO6, GPIO35, FSPID, SUBSPID", C5 NC (hiz) "Do Not Connect", C6 IO15/XTAL_32K_P (io) "RTC_GPIO15, GPIO15, U0RTS, ADC2_CH4, XTAL_32K_P", C8 IO21 (io) "RTC_GPIO21, GPIO21", D1 IO28/SPIWP (io) "SPIWP, GPIO28", D2 IO32/SPID (io) "SPID, GPIO32", D3 IO33/FSPIHD (io) "SPIIO4, GPIO33, FSPIHD, SUBSPIHD", D7 NC (hiz) "Do No Connect", D8 IO4/ADC1.3 (io) "RTC_GPIO4, GPIO4, TOUCH4, ADC1_CH3", E1 IO26/SPICS1 (io) "SPICS1, GPIO26", E2 IO31/SPIQ (io) "SPIQ, GPIO31", E3 IO48/SPICLK_N (io) "SPICLK_N_DIFF, GPIO48, SUBSPICLK_N_DIFF", E7 IO9/ADC1.8 (io) "RTC_GPIO9, GPIO9, TOUCH9, ADC1_CH8, SUBSPIHD, FSPIHD", E8 IO1/ADC1.0 (io) "RTC_GPIO1, GPIO1, TOUCH1, ADC1_CH0", F1 IO30/SPICLK (io) "SPICLK, GPIO30", F2 IO27/SPIHD (io) "SPIHD, GPIO27", F3 IO47/SPICLK_P (io) "SPICLK_P_DIFF, GPIO47, SUBSPICLK_P_DIFF", G2 IO12/ADC2.1 (io) "RTC_GPIO12, GPIO12, TOUCH12, ADC2_CH1, FSPIIO6, SUBSPICLK, FSPICLK", G3 IO11/ADC2.0 (io) "RTC_GPIO11, GPIO11, TOUCH11, ADC2_CH0, FSPIIO5, SUBSPID, FSPID", H1 IO41/MTDI (io) "MTDI, GPIO41, CLK_OUT1", H3 IO10/ADC1.9 (io) "RTC_GPIO10, GPIO10, TOUCH10, ADC1_CH9, FSPIIO4, SUBSPICS0, FSPICS0", H7 IO46/NORM BOOT PD (io) "GPIO46", H8 IO2/ADC1.1 (io) "RTC_GPIO2, GPIO2, TOUCH2, ADC1_CH1", J8 IO5/ADC1.4 (io) "RTC_GPIO5, GPIO5, TOUCH5, ADC1_CH4", J9 IO3/ADC1.2/JTAG_SEL (io) "RTC_GPIO3, GPIO3, TOUCH3, ADC1_CH2"
part C pins: A3 IO17/ADC2.6 (io) "RTC_GPIO17, GPIO17, U1TXD, ADC2_CH6", A4 NC (hiz), B4 IO18/ADC2.7 (io) "RTC_GPIO18, GPIO18, U1RXD, ADC2_CH7, CLK_OUT3", C4 IO29/SPICS0 (io) "SPICS0, GPIO29", E9 IO7/ADC1.6 (io) "RTC_GPIO7, GPIO7, TOUCH7, ADC1_CH6", F7 IO0/NORM BOOT PU (io) "RTC_GPIO0, GPIO0", F8 IO45/JTAG sel (io) "GPIO45", F9 IO6 (io) "RTC_GPIO6, GPIO6, TOUCH6, ADC1_CH5", G1 IO40/MTDO (io) "MTDO, GPIO40, CLK_OUT2", G4 NC (hiz), G5 NC (hiz), G7 NC (hiz), G8 IO43/U0TxD (io) "U0TXD, GPIO43, CLK_OUT1", G9 IO44/U0RxD (io) "U0RXD, GPIO44, CLK_OUT2", H9 IO8/ADC1.7 (io) "RTC_GPIO8, GPIO8, TOUCH8, ADC1_CH7, SUBSPICS1", J7 NC (hiz)

## NORA-W106-PT3_OLD
designator U?
u-blox NORA-W106 WiFi + BLE module - dual core; Manufacturer P/N: NORA-W106-00B; Part Description: Stand-alone Bluetooth low energy module - dual core; Manufacturer 1: u-blox AG; Body Size: 14.3 mm x 10.4 mm; Part Number: NORA-W106; Part Name: NORA-W106; Part_Type: Module; Manufacturer: u-blox; Height: 1.8 mm; Value: NORA-W106; Manufacturer Part Number 1: NORA-W106
footprint NORA_LGA82R_1430X1040X180_ANT (NORA LGA, 82pin ,1.1mm Pitch, 14.3mm x 10.4mm)
footprint NORA_LGA82R_1430X1040X180_ANT - No Paste (NORA LGA, 82pin ,1.1mm Pitch, 14.3mm x 10.4mm)
part A pins: A1 NC (hiz), A6 IO13/FSPIIO7/ADC2.2 (io) "RTC_GPIO13, GPIO13, TOUCH13, ADC2_CH2, FSPIIO7, SUBSPIQ, FSPIQ", A7 VDDIO (power) "Input power supply for CPU IO", A8 VDD (power) "Analog power supply", A9 VSS (power) "Ground", B2 VSS (power) "Ground", B7 VDDIO (power) "Input power supply for CPU IO", B8 VSS (power) "Ground", B9 NC (hiz) "No Connect", C9 D+ (io) "USB D+", D9 D- (io) "USB D-", E4 VSS (power) "Ground", E5 VSS (power) "Ground", F4 VSS (power) "Ground", F5 VSS (power) "Ground", H2 IO42/MTMS (io) "MTMS, GPIO42", J1 VDD_SPI (power) "Output power supply: 1.8 V or VDD3P3_RTC", J2 IO39/MTCK (io) "MTCK, GPIO39, CLK_OUT3, SUBSPICS1", J3 nRESET (in) "High: on, enables the chip.", J4 NC (hiz), J5 NC (hiz), K1 NC (hiz), K2 VSS (power) "Ground", K3 VSS (power) "Ground", K5 VSS (power) "Ground", K7 VSS (power) "Ground", K8 VSS (power) "Ground", K9 RF "RF Pin", L1 VSS (power) "Ground", L9 VSS (power) "Ground", M1 VSS (power) "Ground", M2 VSS (power) "Ground", M8 VSS (power) "Ground", M9 VSS (power) "Ground"
part B pins: A2 IO36/FSPICLK (io) "SPIIO7, GPIO36, FSPICLK, SUBSPICLK", A5 IO14/ADC2.3 (io) "RTC_GPIO14, GPIO14, TOUCH14, ADC2_CH3, FSPIDQS, SUBSPIWP, FSPIWP", B1 IO33/FSPIHD (io) "SPIIO4, GPIO33, FSPIHD, SUBSPIHD", B3 IO35/FSPID (io) "SPIIO6, GPIO35, FSPID, SUBSPID", B5 NC (hiz), B6 IO16/XTAL_32K_N (io) "RTC_GPIO16, GPIO16, U0CTS, ADC2_CH5, XTAL_32K_N", C1 IO37/FSPIQ (io) "SPIDQS, GPIO37, FSPIQ, SUBSPIQ", C2 IO38/FSPIWP (io) "GPIO38, FSPIWP, SUBSPIWP", C5 NC (hiz), C6 IO15/XTAL_32K_P (io) "RTC_GPIO15, GPIO15, U0RTS, ADC2_CH4, XTAL_32K_P", C8 IO21 (io) "RTC_GPIO21, GPIO21", D1 IO28/SPIWP (io) "SPIWP, GPIO28", D2 IO32/SPID (io) "SPID, GPIO32", D3 NC (hiz), D7 NC (hiz), D8 IO4/ADC1.3 (io) "RTC_GPIO4, GPIO4, TOUCH4, ADC1_CH3", E1 IO26/SPICS1 (io) "SPICS1, GPIO26", E2 IO31/SPIQ (io) "SPIQ, GPIO31", E3 IO48/SPICLK_N (io) "SPICLK_N_DIFF, GPIO48, SUBSPICLK_N_DIFF", E7 IO9/ADC1.8 (io) "RTC_GPIO9, GPIO9, TOUCH9, ADC1_CH8, SUBSPIHD, FSPIHD", E8 IO1/ADC1.0 (io) "RTC_GPIO1, GPIO1, TOUCH1, ADC1_CH0", F1 IO30/SPICLK (io) "SPICLK, GPIO30", F2 IO27/SPIHD (io) "SPIHD, GPIO27", F3 IO47/SPICLK_P (io) "SPICLK_P_DIFF, GPIO47, SUBSPICLK_P_DIFF", G2 IO12/ADC2.1 (io) "RTC_GPIO12, GPIO12, TOUCH12, ADC2_CH1, FSPIIO6, SUBSPICLK, FSPICLK", G3 IO11/ADC2.0 (io) "RTC_GPIO11, GPIO11, TOUCH11, ADC2_CH0, FSPIIO5, SUBSPID, FSPID", H1 IO41/MTDI (io) "MTDI, GPIO41, CLK_OUT1", H3 IO10/ADC1.9 (io) "RTC_GPIO10, GPIO10, TOUCH10, ADC1_CH9, FSPIIO4, SUBSPICS0, FSPICS0", H7 IO46/NORM BOOT PD (io) "GPIO46", H8 IO2/ADC1.1 (io) "RTC_GPIO2, GPIO2, TOUCH2, ADC1_CH1", J8 IO5/ADC1.4 (io) "RTC_GPIO5, GPIO5, TOUCH5, ADC1_CH4", J9 IO3/ADC1.2/JTAG_SEL (io) "RTC_GPIO3, GPIO3, TOUCH3, ADC1_CH2"
part C pins: A3 IO17/ADC2.6 (io) "RTC_GPIO17, GPIO17, U1TXD, ADC2_CH6", A4 IO34/FSPICS0 (io) "SPIIO5, GPIO34, FSPICS0, SUBSPICS0", B4 IO18/ADC2.7 (io) "RTC_GPIO18, GPIO18, U1RXD, ADC2_CH7, CLK_OUT3", C4 IO29/SPICS0 (io) "SPICS0, GPIO29", E9 IO7/ADC1.6 (io) "RTC_GPIO7, GPIO7, TOUCH7, ADC1_CH6", F7 IO0/NORM BOOT PU (io) "RTC_GPIO0, GPIO0", F8 IO45/JTAG sel (io) "GPIO45", F9 IO6 (io) "RTC_GPIO6, GPIO6, TOUCH6, ADC1_CH5", G1 IO40/MTDO (io) "MTDO, GPIO40, CLK_OUT2", G4 NC (hiz), G5 NC (hiz), G7 NC (hiz), G8 IO43/U0TxD (io) "U0TXD, GPIO43, CLK_OUT1", G9 IO44/U0RxD (io) "U0RXD, GPIO44, CLK_OUT2", H9 IO8/ADC1.7 (io) "RTC_GPIO8, GPIO8, TOUCH8, ADC1_CH7, SUBSPICS1", J7 NC (hiz)
part A text: PT3_OLD(TEMP)

## NORA-W306
designator U?
u-blox NORA-W306 Dual Band WiFi with Bluetooth 5.0 LE module; Part Description: Stand-alone Bluetooth low energy module - dual core; Body Size: 14.3 mm x 10.4 mm; Manufacturer P/N: NORA-W306; Part Number: NORA-W306; Part Name: NORA-W306; Part_Type: Module; Manufacturer: u-blox; Height: 1.8 mm; Value: NORA-W306
footprint NORA_LGA82R_1430X1040X180_ANT (NORA LGA, 82pin ,1.1mm Pitch, 14.3mm x 10.4mm)
footprint NORA_LGA82R_1430X1040X180_ANT - No Paste (NORA LGA, 82pin ,1.1mm Pitch, 14.3mm x 10.4mm)
part A pins: A1 VSS (power), A6 NC (hiz), A7 VDD (power), A8 VDDH (power), A9 VSS (power), B2 VSS (power), B7 VDD (power), B8 VSS (power), B9 VBUS (power), C9 D+ (io), D9 D- (io), E4 VSS (power), E5 VSS (power), F4 VSS (power), F5 VSS (power), H2 SWDIO/PA[27] (io), J1 NC (hiz), J2 SWDCLK/PB[3] (in), J3 nRESET (in), J4 NC (hiz), J5 NC (hiz), K1 NC (hiz), K2 VSS (power), K3 VSS (power), K5 VSS (power), K7 VSS (power), K8 VSS (power), K9 NC (hiz), L1 VSS (power), L9 VSS (power), M1 VSS (power), M2 VSS (power), M8 VSS (power), M9 VSS (power)
part B pins: A2 (io), A5 (io), B1 (io), B3 (io), B5 (io), B6 PA[14]/RTC_OUT (io), C1 (io), C2 (io), C5 (io), C6 PA[15]/RTC EXT_32K (io), C8 (io), D1 (io), D2 (io), D3 (io), D7 (io), D8 (io), E1 (io), E2 (io), E3 (io), E7 (io), E8 (io), F1 (io), F2 (io), F3 (io), G2 (io), G3 (io), H1 (io), H3 (io), H7 (io), H8 (io), J8 (io), J9 (io)
part C pins: A3 (io) "I2C Clock SCL", A4 (io), B4 (io) "I2C Data SDA", C4 (io), E9 (io), F7 PA[7] (io), F8 (io), F9 (io), G1 (io), G4 (io), G5 (io), G7 (io), G8 (io), G9 (io), H9 (io), J7 (io)

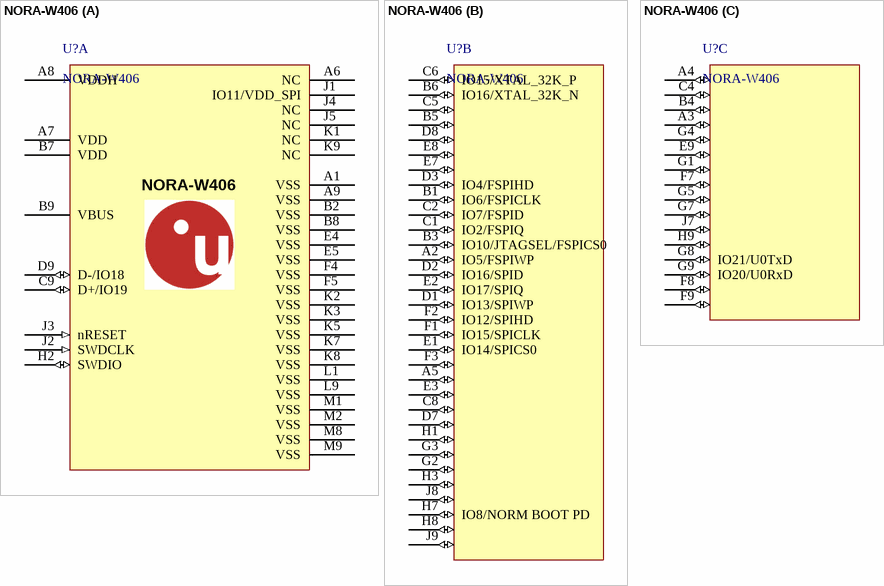
[diagram p3: symbol NORA-W406]

## NORA-W406
designator U?
u-blox NORA-W406 2.4GHz WiFi6 module; Part Description: Stand-alone Bluetooth low energy module - dual core; Body Size: 14.3 mm x 10.4 mm; Manufacturer P/N: NORA-W406; Part Number: NORA-W406; Part Name: NORA-W406; Part_Type: Module; Manufacturer: u-blox; Height: 1.8 mm; Value: NORA-W406
footprint NORA_LGA82R_1430X1040X180_ANT (NORA LGA, 82pin ,1.1mm Pitch, 14.3mm x 10.4mm)
footprint NORA_LGA82R_1430X1040X180_ANT - No Paste (NORA LGA, 82pin ,1.1mm Pitch, 14.3mm x 10.4mm)
part A pins: A1 VSS (power), A6 NC (hiz), A7 VDD (power), A8 VDDH (power), A9 VSS (power), B2 VSS (power), B7 VDD (power), B8 VSS (power), B9 VBUS (power), C9 D+/IO19 (io), D9 D-/IO18 (io), E4 VSS (power), E5 VSS (power), F4 VSS (power), F5 VSS (power), H2 SWDIO (io), J1 IO11/VDD_SPI (power) "Output power supply: 1.8 V or VDD3P3_RTC", J2 SWDCLK (in), J3 nRESET (in), J4 NC (hiz), J5 NC (hiz), K1 NC (hiz), K2 VSS (power), K3 VSS (power), K5 VSS (power), K7 VSS (power), K8 VSS (power), K9 NC (hiz), L1 VSS (power), L9 VSS (power), M1 VSS (power), M2 VSS (power), M8 VSS (power), M9 VSS (power)
part B pins: A2 IO5/FSPIWP (io) "GPIO5, FSPIWP", A5 (io), B1 IO6/FSPICLK (io) "GPIO6, FSPICLK", B3 IO10/JTAGSEL/FSPICS0 (io) "GPIO10, FSPICS0", B5 (io), B6 IO16/XTAL_32K_N (io) "RTC_GPIO16, GPIO16, U0CTS, ADC2_CH5, XTAL_32K_N", C1 IO2/FSPIQ (io) "GPIO2, FSPIQ", C2 IO7/FSPID (io) "GPIO7, FSPID", C5 (io), C6 IO15/XTAL_32K_P (io) "RTC_GPIO15, GPIO15, U0RTS, ADC2_CH4, XTAL_32K_P", C8 (io), D1 IO13/SPIWP (io) "SPIWP, GPIO13", D2 IO16/SPID (io) "SPID, GPIO16", D3 IO4/FSPIHD (io) "GPIO4, FSPIHD", D7 (io), D8 (io), E1 IO14/SPICS0 (io) "SPICS0, GPIO14", E2 IO17/SPIQ (io) "SPIQ, GPIO17", E3 (io), E7 (io), E8 (io), F1 IO15/SPICLK (io) "SPICLK, GPIO15", F2 IO12/SPIHD (io) "SPIHD, GPIO12", F3 (io), G2 (io), G3 (io), H1 (io), H3 (io), H7 IO8/NORM BOOT PD (io), H8 (io), J8 (io), J9 (io)
part C pins: A3 (io) "I2C Clock SCL", A4 (io), B4 (io) "I2C Data SDA", C4 (io), E9 (io), F7 (io), F8 (io), F9 (io), G1 (io), G4 (io), G5 (io), G7 (io), G8 IO21/U0TxD (io) "U0TXD, GPIO21", G9 IO20/U0RxD (io) "U0RXD, GPIO20", H9 (io), J7 (io)